# EAGLE library part SI5338 (library silicon-labs)
QUAD CLOCK GENERATOR I2C-PROGRAMMABLE ANY-RATE, ANY-OUTPUT
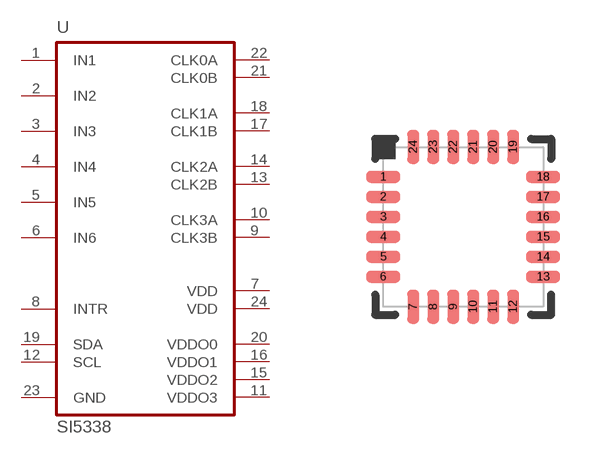
[diagram p6: symbol with the pads of QFN24; footprint QFN24]

Designator prefix U

## SI5338  [QFN24]
1  IN1  in
2  IN2  in
3  IN3  in
4  IN4  in
5  IN5  in
6  IN6  in
7  VDD  pwr
8  INTR  out
9  CLK3B  out
10  CLK3A  out
11  VDDO3  pwr
12  SCL
13  CLK2B  out
14  CLK2A  out
15  VDDO2  pwr
16  VDDO1  pwr
17  CLK1B  out
18  CLK1A  out
19  SDA
20  VDDO0  pwr
21  CLK0B  out
22  CLK0A  out
23  GND  pwr
24  VDD  pwr

## Footprint QFN24 (pad centres in mm)
QFN-24
smd 0.85 x 0.3: 1 -2,1.25; 2 -2,0.75; 3 -2,0.25; 4 -2,-0.25; 5 -2,-0.75; 6 -2,-1.25; 13 2,-1.25; 14 2,-0.75; 15 2,-0.25; 16 2,0.25; 17 2,0.75; 18 2,1.25
smd 0.3 x 0.85: 7 -1.25,-2; 8 -0.75,-2; 9 -0.25,-2; 10 0.25,-2; 11 0.75,-2; 12 1.25,-2; 19 1.25,2; 20 0.75,2; 21 0.25,2; 22 -0.25,2; 23 -0.75,2; 24 -1.25,2